# EAGLE library part PIC32MX564F064H-X_MR (library MINI-32)
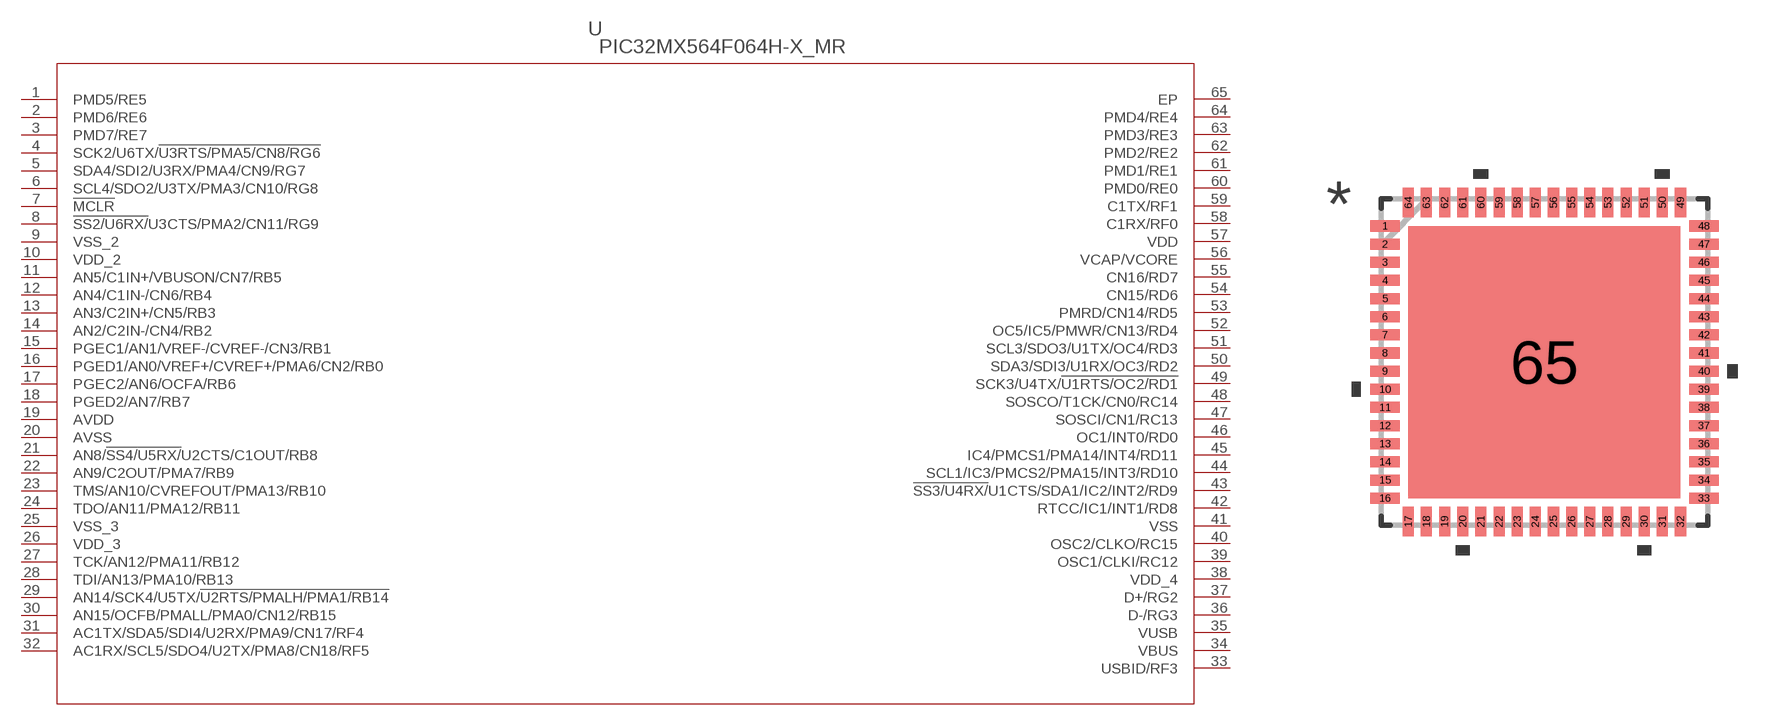
[diagram p3: symbol with the pads of QFN64_9X9MC; footprint QFN64_9X9MC]

Designator prefix -

## PIC32MX564F064H-X_MR  [QFN64_9X9MC]
1  PMD5/RE5
2  PMD6/RE6
3  PMD7/RE7
4  SCK2/U6TX/!U3RTS/PMA5/CN8/RG6
5  SDA4/SDI2/U3RX/PMA4/CN9/RG7
6  SCL4/SDO2/U3TX/PMA3/CN10/RG8
7  !MCLR  in
8  !SS2/U6RX/!U3CTS/PMA2/CN11/RG9
9  VSS_2  pwr
10  VDD_2  pwr
11  AN5/C1IN+/VBUSON/CN7/RB5
12  AN4/C1IN-/CN6/RB4
13  AN3/C2IN+/CN5/RB3
14  AN2/C2IN-/CN4/RB2
15  PGEC1/AN1/VREF-/CVREF-/CN3/RB1
16  PGED1/AN0/VREF+/CVREF+/PMA6/CN2/RB0
17  PGEC2/AN6/OCFA/RB6
18  PGED2/AN7/RB7
19  AVDD  pwr
20  AVSS  pwr
21  AN8/!SS4/U5RX/!U2CTS/C1OUT/RB8
22  AN9/C2OUT/PMA7/RB9
23  TMS/AN10/CVREFOUT/PMA13/RB10
24  TDO/AN11/PMA12/RB11
25  VSS_3  pwr
26  VDD_3  pwr
27  TCK/AN12/PMA11/RB12
28  TDI/AN13/PMA10/RB13
29  AN14/SCK4/U5TX/!U2RTS/PMALH/PMA1/RB14
30  AN15/OCFB/PMALL/PMA0/CN12/RB15
31  AC1TX/SDA5/SDI4/U2RX/PMA9/CN17/RF4
32  AC1RX/SCL5/SDO4/U2TX/PMA8/CN18/RF5
33  USBID/RF3
34  VBUS  pwr
35  VUSB  pwr
36  D-/RG3
37  D+/RG2
38  VDD_4  pwr
39  OSC1/CLKI/RC12
40  OSC2/CLKO/RC15
41  VSS  pwr
42  RTCC/IC1/INT1/RD8
43  !SS3/U4RX/!U1CTS/SDA1/IC2/INT2/RD9
44  SCL1/IC3/PMCS2/PMA15/INT3/RD10
45  IC4/PMCS1/PMA14/INT4/RD11
46  OC1/INT0/RD0
47  SOSCI/CN1/RC13
48  SOSCO/T1CK/CN0/RC14
49  SCK3/U4TX/!U1RTS/OC2/RD1
50  SDA3/SDI3/U1RX/OC3/RD2
51  SCL3/SDO3/U1TX/OC4/RD3
52  OC5/IC5/PMWR/CN13/RD4
53  PMRD/CN14/RD5
54  CN15/RD6
55  CN16/RD7
56  VCAP/VCORE  pwr
57  VDD  pwr
58  C1RX/RF0
59  C1TX/RF1
60  PMD0/RE0
61  PMD1/RE1
62  PMD2/RE2
63  PMD3/RE3
64  PMD4/RE4
65  EP  pas

## Footprint QFN64_9X9MC (pad centres in mm)
smd 0.813 x 0.305: 1 -4.394,3.75; 2 -4.394,3.25; 3 -4.394,2.75; 4 -4.394,2.25; 5 -4.394,1.75; 6 -4.394,1.25; 7 -4.394,0.75; 8 -4.394,0.25; 9 -4.394,-0.25; 10 -4.394,-0.75; 11 -4.394,-1.25; 12 -4.394,-1.75; 13 -4.394,-2.25; 14 -4.394,-2.75; 15 -4.394,-3.25; 16 -4.394,-3.75; 33 4.394,-3.75; 34 4.394,-3.25; 35 4.394,-2.75; 36 4.394,-2.25; 37 4.394,-1.75; 38 4.394,-1.25; 39 4.394,-0.75; 40 4.394,-0.25; 41 4.394,0.25; 42 4.394,0.75; 43 4.394,1.25; 44 4.394,1.75; 45 4.394,2.25; 46 4.394,2.75; 47 4.394,3.25; 48 4.394,3.75
smd 0.305 x 0.813: 17 -3.75,-4.394; 18 -3.25,-4.394; 19 -2.75,-4.394; 20 -2.25,-4.394; 21 -1.75,-4.394; 22 -1.25,-4.394; 23 -0.75,-4.394; 24 -0.25,-4.394; 25 0.25,-4.394; 26 0.75,-4.394; 27 1.25,-4.394; 28 1.75,-4.394; 29 2.25,-4.394; 30 2.75,-4.394; 31 3.25,-4.394; 32 3.75,-4.394; 49 3.75,4.394; 50 3.25,4.394; 51 2.75,4.394; 52 2.25,4.394; 53 1.75,4.394; 54 1.25,4.394; 55 0.75,4.394; 56 0.25,4.394; 57 -0.25,4.394; 58 -0.75,4.394; 59 -1.25,4.394; 60 -1.75,4.394; 61 -2.25,4.394; 62 -2.75,4.394; 63 -3.25,4.394; 64 -3.75,4.394
smd 7.493 x 7.493: 65 0,0